# Altium footprint library Synthiam-new.PcbLib: 262 footprints (part 1 of 17)
Each footprint in its own frame and in the unit in brackets; x right, y up, seen from the top. Pads: shape width x height; smd on the part's side, far side on the other; paste and mask are expansions set on the pad; w line width, h text height; cw(c..) or ccw(c..) is an arc to the next point about the centre after c.
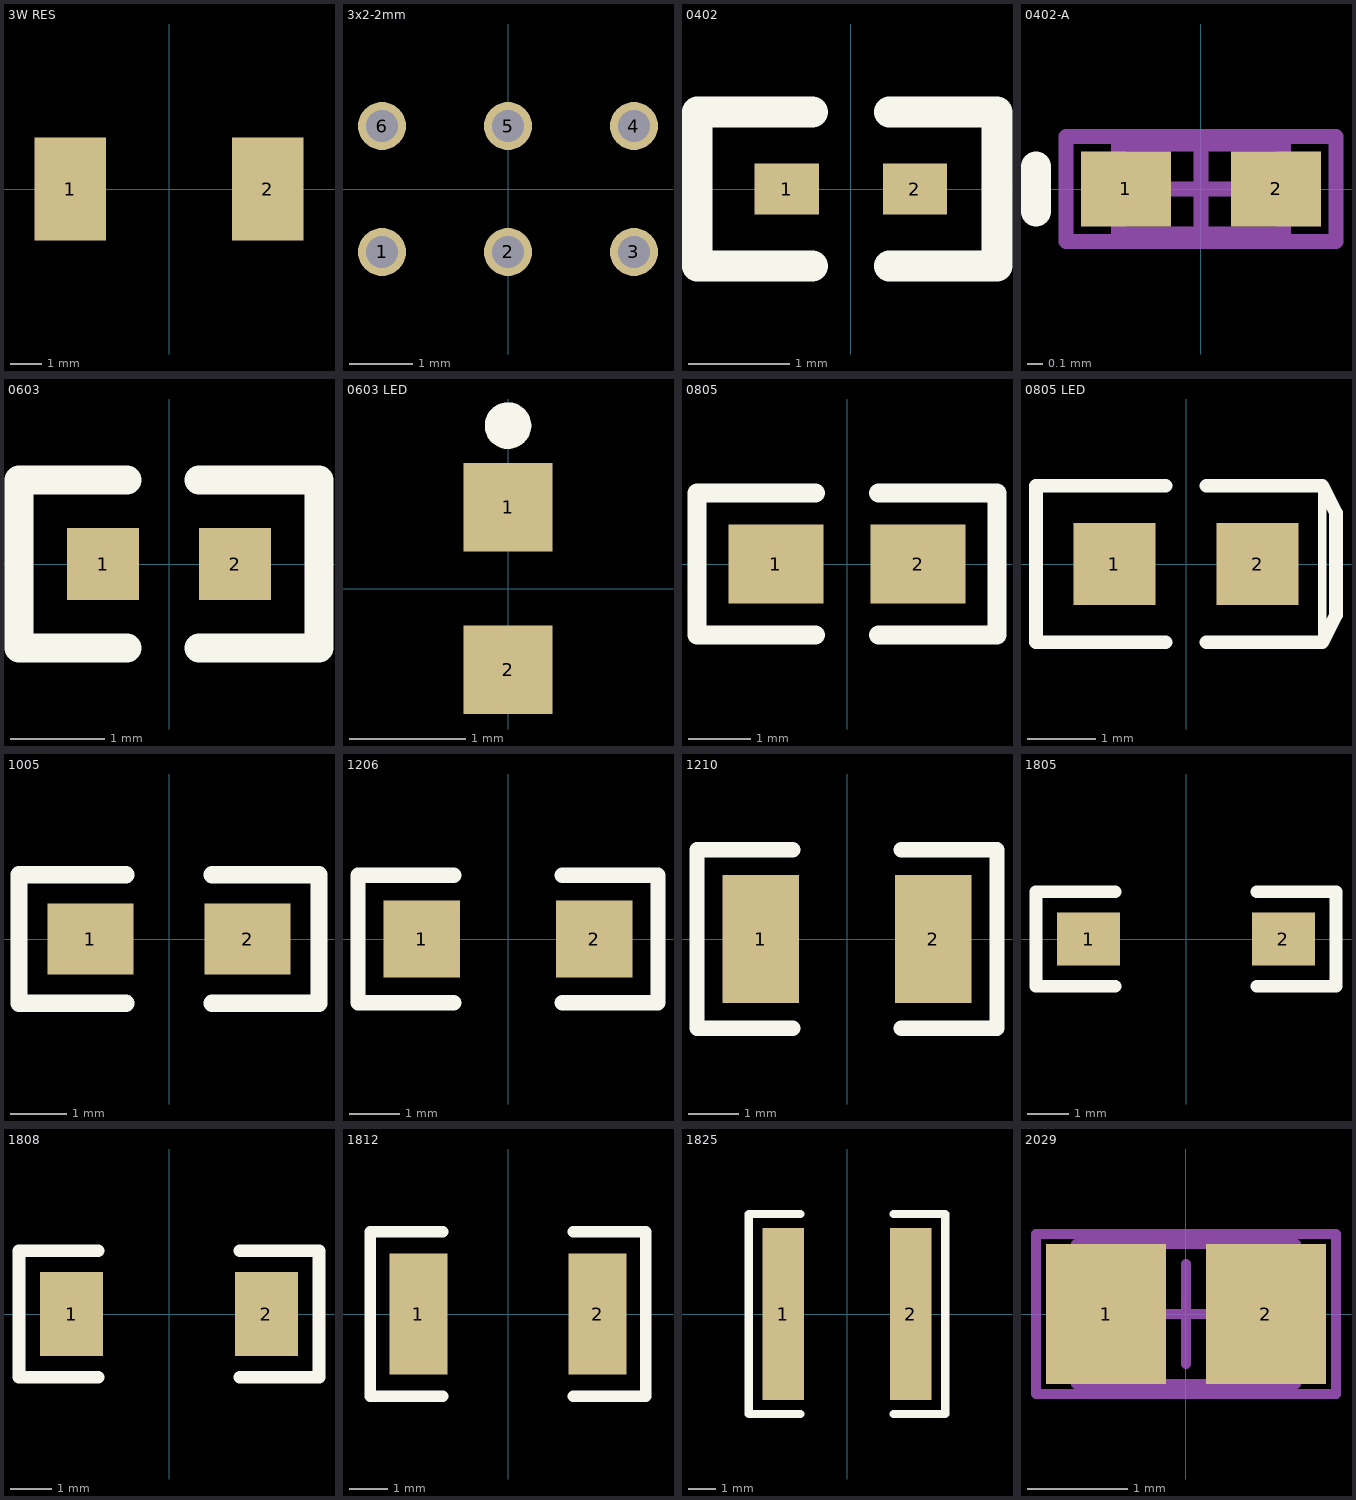
[diagram p0: the footprints below, top view; thin cyan lines are the x and y axes]

## 3W RES [mm]
pads (2):
  rect 2.3x3.3 smd: 1(-3.175,0) 2(3.175,0)

## 3x2-2mm [mil]
pads (6):
  round 30 hole 20: 1(-78.74,-39.37) 2(0,-39.37) 3(78.74,-39.37) 4(78.74,39.37) 5(0,39.37) 6(-78.74,39.37)

## 0402 [mil]
pads (2):
  rect 25x20 smd: 1(-25,0) 2(25,0)
Top Overlay:
  lines w12: -15,-30 -60,-30 -60,30 -15,30 ; 15,-30 57,-30 57,30 15,30

## 0402-A [mm]
pads (2):
  rect 0.6x0.5 smd: 1(-0.5,0) 2(0.5,0)
Top Overlay:
  lines w0.2: -1.1,-0.15 -1.1,0.15
Mechanical 13:
  lines w0.1: -0.55,-0.3 0.55,-0.3 0.55,0.3 -0.55,0.3 -0.55,-0.3
Mechanical 15:
  lines w0.1: -0.3,0 0.3,0 ; 0,-0.3 0,0.3 ; -0.9,-0.35 0.9,-0.35 0.9,0.35 -0.9,0.35 -0.9,-0.35

## 0603 [mil]
pads (2):
  rect 30x30 smd: 1(-27.5,0) 2(27.5,0)
Top Overlay:
  lines w12: -17.5,-35 -62.5,-35 -62.5,35 -17.5,35 ; 12.5,-35 62.5,-35 62.5,35 12.5,35

## 0603 LED [mil]
pads (2):
  rect 30x30 smd: 1(0,27.56) 2(0,-27.44)
Top Overlay:
  circle w7.87: c0,55.12 r3.94

## 0805 [mil]
pads (2):
  rect 60x50 smd: 1(-45,0) 2(45,0)
Top Overlay:
  lines w12: -20,-45 -95,-45 -95,45 -20,45 ; 20,-45 95,-45 95,45 20,45

## 0805 LED [mm]
pads (2):
  rect 1.2x1.2 smd: 1(-1.05,0) 2(1.05,0)
Top Overlay:
  lines w0.127: 2,-1.15 2,1.15 ; 2,1.15 2,1.15
  lines w0.2: -0.3,-1.15 -2.2,-1.15 -2.2,1.15 -0.3,1.15 ; 0.3,-1.15 2,-1.15 2.2,-0.75 2.2,0.75 2,1.15 0.3,1.15

## 1005 [mil]
pads (2):
  rect 60x50 smd: 1(-55,0) 2(55,0)
Top Overlay:
  lines w12: -30,-45 -105,-45 -105,45 -30,45 ; 30,-45 105,-45 105,45 30,45

## 1206 [mil]
pads (2):
  rect 60x60 smd: 1(-67.5,0) 2(67.5,0)
Top Overlay:
  lines w12: -42.5,-50 -117.5,-50 -117.5,50 -42.5,50 ; 42.5,-50 117.5,-50 117.5,50 42.5,50

## 1210 [mil]
pads (2):
  rect 60x100 smd: 1(-67.5,0) 2(67.5,0)
Top Overlay:
  lines w12: -42.5,-70 -117.5,-70 -117.5,70 -42.5,70 ; 42.5,-70 117.5,-70 117.5,70 42.5,70

## 1805 [mil]
pads (2):
  rect 60x50 smd: 1(-92.5,0) 2(92.5,0)
Top Overlay:
  lines w12: -67.5,-45 -142.5,-45 -142.5,45 -67.5,45 ; 67.5,-45 142.5,-45 142.5,45 67.5,45

## 1808 [mil]
pads (2):
  rect 60x80 smd: 1(-92.5,0) 2(92.5,0)
Top Overlay:
  lines w12: -67.5,-60 -142.5,-60 -142.5,60 -67.5,60 ; 67.5,-60 142.5,-60 142.5,60 67.5,60

## 1812 [mil]
pads (2):
  rect 60x125 smd: 1(-92.5,0) 2(92.5,0)
Top Overlay:
  lines w12: -67.5,-85 -142.5,-85 -142.5,85 -67.5,85 ; 67.5,-85 142.5,-85 142.5,85 67.5,85

## 1825 [mil]
pads (2):
  rect 60x250 smd: 1(-92.5,0) 2(92.5,0)
Top Overlay:
  lines w12: -67.5,-145 -142.5,-145 -142.5,145 -67.5,145 ; 67.5,-145 142.5,-145 142.5,145 67.5,145

## 2029 [mm]
pads (2):
  rect 1.2x1.4 smd: 1(-0.8,0) 2(0.8,0)
Mechanical 13:
  lines w0.1: -1.1,-0.7 1.1,-0.7 1.1,0.7 -1.1,0.7 -1.1,-0.7
Mechanical 15:
  lines w0.1: -0.5,0 0.5,0 ; 0,-0.5 0,0.5 ; -1.5,-0.8 1.5,-0.8 1.5,0.8 -1.5,0.8 -1.5,-0.8